# EAGLE library part TPS6109X (library old-4ms-main-parts)
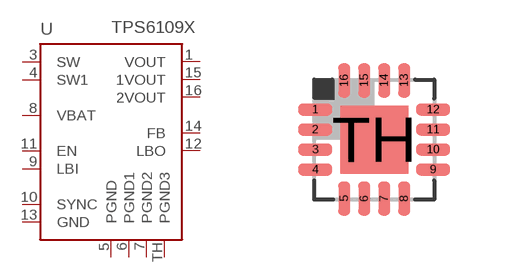
[diagram p27: symbol with the pads of QFN16; footprint QFN16]

Designator prefix U

## TPS6109XVQFN  [QFN16]
1  VOUT  out
3  SW  in
4  SW1  in
5  PGND  pwr
6  PGND1  pwr
7  PGND2  pwr
8  VBAT  in
9  LBI  in
10  SYNC  in
11  EN  in
12  LBO  out
13  GND  pwr
14  FB  in
15  1VOUT  out
16  2VOUT  out
TH  PGND3  pwr

## Footprint QFN16 (pad centres in mm)
RTE (S-PQFP-N16) 3x3 mm Source: www.ti.com .. tpa6132a2 direct path stereo $.65.pdf
smd 0.85 x 0.3: 1 -1.475,0.75; 2 -1.475,0.25; 3 -1.475,-0.25; 4 -1.475,-0.75; 9 1.475,-0.75; 10 1.475,-0.25; 11 1.475,0.25; 12 1.475,0.75
smd 0.3 x 0.85: 5 -0.75,-1.475; 6 -0.25,-1.475; 7 0.25,-1.475; 8 0.75,-1.475; 13 0.75,1.475; 14 0.25,1.475; 15 -0.25,1.475; 16 -0.75,1.475
smd 1.7 x 1.7: TH 0,0